# Altium integrated library Capacitor - Ceramic - Sumsung.IntLib: 1421 symbols (part 19 of 22)
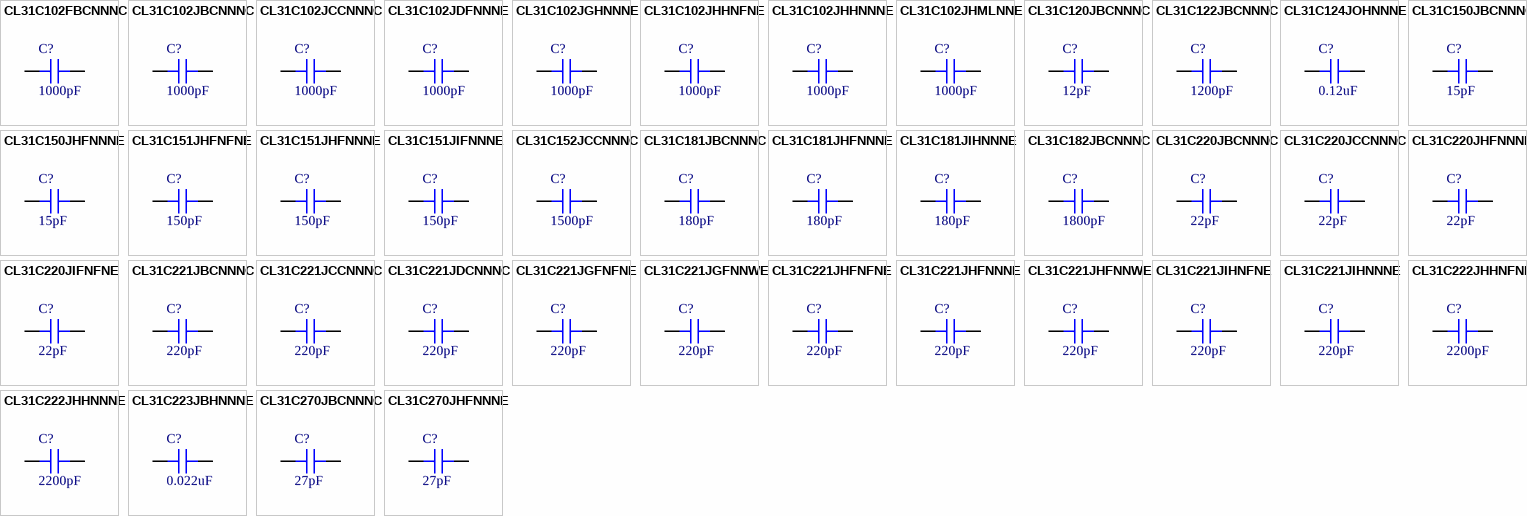
[diagram p53: symbols CL31C102FBCNNNC to CL31C270JHFNNNE]

## CL31C102JBCNNNC
designator C?, comment 1000pF
CAP CER 1000PF 50V NP0 1206; Part Number: CL31C102JBCNNNC; Manufacturer: Samsung Electro-Mechanics America, Inc.; TemperatureRange: -55C ~ 125C; TemperatureCoefficient: C0G, NP0; Tolerance: 5%; Value: 1000pF; PartId: 17139; Supplier 1: Digi-Key; Supplier Part Number 1: 1276-1310-2-ND; ComponentLink1Description: Datasheet; ComponentLink1URL: http://www.samsungsem.com/kr/support/product-search/mlcc/__icsFiles/afieldfile/2016/08/18/S_CL31C102JBCNNNC.pdf; ComponentLink2Description: Digi-Key Listing; ComponentLink2URL: https://www.digikey.com/product-detail/en/samsung-electro-mechanics-america-inc/CL31C102JBCNNNC/1276-1310-2-ND/3886968; Voltage: 50V; Price: 0.0455; Device Package: 1206 (3216 Metric)
footprint CAP 1206/3216 - 1.0MM
pins: 1, 2

## CL31C102JCCNNNC
designator C?, comment 1000pF
CAP CER 1000PF 100V NP0 1206; Part Number: CL31C102JCCNNNC; Manufacturer: Samsung Electro-Mechanics America, Inc.; TemperatureRange: -55C ~ 125C; TemperatureCoefficient: C0G, NP0; Tolerance: 5%; Value: 1000pF; PartId: 17075; Supplier 1: Digi-Key; Supplier Part Number 1: 1276-2805-2-ND; ComponentLink1Description: Datasheet; ComponentLink1URL: http://www.samsungsem.com/kr/support/product-search/mlcc/__icsFiles/afieldfile/2016/08/18/S_CL31C102JCCNNNC.pdf; ComponentLink2Description: Digi-Key Listing; ComponentLink2URL: https://www.digikey.com/product-detail/en/samsung-electro-mechanics-america-inc/CL31C102JCCNNNC/1276-2805-2-ND/3888463; Voltage: 100V; Price: 0.0722; Device Package: 1206 (3216 Metric)
footprint CAP 1206/3216 - 1.0MM
pins: 1, 2

## CL31C102JDFNNNE
designator C?, comment 1000pF
CAP CER 1000PF 200V NP0 1206; Part Number: CL31C102JDFNNNE; Manufacturer: Samsung Electro-Mechanics America, Inc.; TemperatureRange: -55C ~ 125C; TemperatureCoefficient: C0G, NP0; Tolerance: 5%; Value: 1000pF; PartId: 15440; Supplier 1: Digi-Key; Supplier Part Number 1: 1276-3204-2-ND; ComponentLink1Description: Datasheet; ComponentLink1URL: http://www.samsungsem.com/kr/support/product-search/mlcc/CL31C102JDFNNNE.jsp; ComponentLink2Description: Digi-Key Listing; ComponentLink2URL: https://www.digikey.com/product-detail/en/samsung-electro-mechanics-america-inc/CL31C102JDFNNNE/1276-3204-2-ND/3888862; Voltage: 200V; Price: 0.0528; Device Package: 1206 (3216 Metric)
footprint CAP 1206/3216
pins: 1, 2

## CL31C102JGHNNNE
designator C?, comment 1000pF
CAP CER 1000PF 500V NP0 1206; Part Number: CL31C102JGHNNNE; Manufacturer: Samsung Electro-Mechanics America, Inc.; TemperatureRange: -55C ~ 125C; TemperatureCoefficient: C0G, NP0; Tolerance: 5%; Value: 1000pF; PartId: 15450; Supplier 1: Digi-Key; Supplier Part Number 1: 1276-3206-2-ND; ComponentLink1Description: Datasheet; ComponentLink1URL: http://www.samsungsem.com/kr/support/product-search/mlcc/CL31C102JGHNNNE.jsp; ComponentLink2Description: Digi-Key Listing; ComponentLink2URL: https://www.digikey.com/product-detail/en/samsung-electro-mechanics-america-inc/CL31C102JGHNNNE/1276-3206-2-ND/3888864; Voltage: 500V; Price: 0.0582; Device Package: 1206 (3216 Metric)
footprint CAP 1206/3216
pins: 1, 2

## CL31C102JHHNFNE
designator C?, comment 1000pF
CAP CER 1000PF 630V NP0 1206; Part Number: CL31C102JHHNFNE; Manufacturer: Samsung Electro-Mechanics America, Inc.; TemperatureRange: -55C ~ 125C; TemperatureCoefficient: C0G, NP0; Tolerance: 5%; Value: 1000pF; PartId: 15409; Supplier 1: Digi-Key; Supplier Part Number 1: 1276-3207-2-ND; ComponentLink1Description: Datasheet; ComponentLink1URL: http://www.samsungsem.com/kr/support/product-search/mlcc/CL31C102JHHNFNE.jsp; ComponentLink2Description: Digi-Key Listing; ComponentLink2URL: https://www.digikey.com/product-detail/en/samsung-electro-mechanics-america-inc/CL31C102JHHNFNE/1276-3207-2-ND/3888865; Voltage: 630V; Price: 0.0582; Device Package: 1206 (3216 Metric)
footprint CAP 1206/3216
pins: 1, 2

## CL31C102JHHNNNE
designator C?, comment 1000pF
CAP CER 1000PF 630V NP0 1206; Part Number: CL31C102JHHNNNE; Manufacturer: Samsung Electro-Mechanics America, Inc.; TemperatureRange: -55C ~ 125C; TemperatureCoefficient: C0G, NP0; Tolerance: 5%; Value: 1000pF; PartId: 15451; Supplier 1: Digi-Key; Supplier Part Number 1: 1276-3208-2-ND; ComponentLink1Description: Datasheet; ComponentLink1URL: http://www.samsungsem.com/kr/support/product-search/mlcc/CL31C102JHHNNNE.jsp; ComponentLink2Description: Digi-Key Listing; ComponentLink2URL: https://www.digikey.com/product-detail/en/samsung-electro-mechanics-america-inc/CL31C102JHHNNNE/1276-3208-2-ND/3888866; Voltage: 630V; Price: 0.0582; Device Package: 1206 (3216 Metric)
footprint CAP 1206/3216
pins: 1, 2

## CL31C102JHMLNNE
designator C?, comment 1000pF
CAP CER 1000PF 630V NP0 1206; Part Number: CL31C102JHMLNNE; Manufacturer: Samsung Electro-Mechanics America, Inc.; TemperatureRange: -55C ~ 125C; TemperatureCoefficient: C0G, NP0; Tolerance: 5%; Value: 1000pF; PartId: 15452; Supplier 1: Digi-Key; Supplier Part Number 1: 1276-3209-2-ND; ComponentLink1Description: Datasheet; ComponentLink1URL: http://www.samsungsem.com/kr/support/product-search/mlcc/CL31C102JHMLNNE.jsp; ComponentLink2Description: Digi-Key Listing; ComponentLink2URL: https://www.digikey.com/product-detail/en/samsung-electro-mechanics-america-inc/CL31C102JHMLNNE/1276-3209-2-ND/3888867; Voltage: 630V; Price: 0.0582; Device Package: 1206 (3216 Metric)
footprint CAP 1206/3216
pins: 1, 2

## CL31C120JBCNNNC
designator C?, comment 12pF
CAP CER 12PF 50V NP0 1206; Part Number: CL31C120JBCNNNC; Manufacturer: Samsung Electro-Mechanics America, Inc.; TemperatureRange: -55C ~ 125C; TemperatureCoefficient: C0G, NP0; Tolerance: 5%; Value: 12pF; PartId: 17168; Supplier 1: Digi-Key; Supplier Part Number 1: 1276-2806-2-ND; ComponentLink1Description: Datasheet; ComponentLink1URL: http://www.samsungsem.com/kr/support/product-search/mlcc/__icsFiles/afieldfile/2016/08/18/S_CL31C120JBCNNNC.pdf; ComponentLink2Description: Digi-Key Listing; ComponentLink2URL: https://www.digikey.com/product-detail/en/samsung-electro-mechanics-america-inc/CL31C120JBCNNNC/1276-2806-2-ND/3888464; Voltage: 50V; Price: 0.0369; Device Package: 1206 (3216 Metric)
footprint CAP 1206/3216 - 1.0MM
pins: 1, 2

## CL31C122JBCNNNC
designator C?, comment 1200pF
CAP CER 1200PF 50V NP0 1206; Part Number: CL31C122JBCNNNC; Manufacturer: Samsung Electro-Mechanics America, Inc.; TemperatureRange: -55C ~ 125C; TemperatureCoefficient: C0G, NP0; Tolerance: 5%; Value: 1200pF; PartId: 17129; Supplier 1: Digi-Key; Supplier Part Number 1: 1276-2808-2-ND; ComponentLink1Description: Datasheet; ComponentLink1URL: http://www.samsungsem.com/kr/support/product-search/mlcc/__icsFiles/afieldfile/2016/08/18/S_CL31C122JBCNNNC.pdf; ComponentLink2Description: Digi-Key Listing; ComponentLink2URL: https://www.digikey.com/product-detail/en/samsung-electro-mechanics-america-inc/CL31C122JBCNNNC/1276-2808-2-ND/3888466; Voltage: 50V; Price: 0.0739; Device Package: 1206 (3216 Metric)
footprint CAP 1206/3216 - 1.0MM
pins: 1, 2

## CL31C124JOHNNNE
designator C?, comment 0.12uF
CAP CER 0.12UF 16V NP0 1206; Part Number: CL31C124JOHNNNE; Manufacturer: Samsung Electro-Mechanics America, Inc.; TemperatureRange: -55C ~ 125C; TemperatureCoefficient: C0G, NP0; Tolerance: 5%; Value: 0.12uF; PartId: 17486; Supplier 1: Digi-Key; Supplier Part Number 1: 1276-3213-2-ND; ComponentLink1Description: Datasheet; ComponentLink1URL: http://www.samsungsem.com/kr/support/product-search/mlcc/__icsFiles/afieldfile/2016/08/18/S_CL31C124JOHNNNE.pdf; ComponentLink2Description: Digi-Key Listing; ComponentLink2URL: https://www.digikey.com/product-detail/en/samsung-electro-mechanics-america-inc/CL31C124JOHNNNE/1276-3213-2-ND/3888871; Voltage: 16V; Price: 0.241; Device Package: 1206 (3216 Metric)
footprint CAP 1206/3216 - 1.8MM
pins: 1, 2

## CL31C150JBCNNNC
designator C?, comment 15pF
CAP CER 15PF 50V NP0 1206; Part Number: CL31C150JBCNNNC; Manufacturer: Samsung Electro-Mechanics America, Inc.; TemperatureRange: -55C ~ 125C; TemperatureCoefficient: C0G, NP0; Tolerance: 5%; Value: 15pF; PartId: 17289; Supplier 1: Digi-Key; Supplier Part Number 1: 1276-2809-2-ND; ComponentLink1Description: Datasheet; ComponentLink1URL: http://www.samsungsem.com/kr/support/product-search/mlcc/__icsFiles/afieldfile/2016/08/18/S_CL31C150JBCNNNC.pdf; ComponentLink2Description: Digi-Key Listing; ComponentLink2URL: https://www.digikey.com/product-detail/en/samsung-electro-mechanics-america-inc/CL31C150JBCNNNC/1276-2809-2-ND/3888467; Voltage: 50V; Price: 0.0361; Device Package: 1206 (3216 Metric)
footprint CAP 1206/3216 - 1.0MM
pins: 1, 2

## CL31C150JHFNNNE
designator C?, comment 15pF
CAP CER 15PF 630V NP0 1206; Part Number: CL31C150JHFNNNE; Manufacturer: Samsung Electro-Mechanics America, Inc.; TemperatureRange: -55C ~ 125C; TemperatureCoefficient: C0G, NP0; Tolerance: 5%; Value: 15pF; PartId: 15402; Supplier 1: Digi-Key; Supplier Part Number 1: 1276-3215-2-ND; ComponentLink1Description: Datasheet; ComponentLink1URL: http://www.samsungsem.com/kr/support/product-search/mlcc/CL31C150JHFNNNE.jsp; ComponentLink2Description: Digi-Key Listing; ComponentLink2URL: https://www.digikey.com/product-detail/en/samsung-electro-mechanics-america-inc/CL31C150JHFNNNE/1276-3215-2-ND/3888873; Voltage: 630V; Price: 0.029; Device Package: 1206 (3216 Metric)
footprint CAP 1206/3216
pins: 1, 2

## CL31C151JHFNFNE
designator C?, comment 150pF
CAP CER 150PF 630V NP0 1206; Part Number: CL31C151JHFNFNE; Manufacturer: Samsung Electro-Mechanics America, Inc.; TemperatureRange: -55C ~ 125C; TemperatureCoefficient: C0G, NP0; Tolerance: 5%; Value: 150pF; PartId: 15493; Supplier 1: Digi-Key; Supplier Part Number 1: 1276-3217-2-ND; ComponentLink1Description: Datasheet; ComponentLink1URL: http://www.samsungsem.com/kr/support/product-search/mlcc/CL31C151JHFNFNE.jsp; ComponentLink2Description: Digi-Key Listing; ComponentLink2URL: https://www.digikey.com/product-detail/en/samsung-electro-mechanics-america-inc/CL31C151JHFNFNE/1276-3217-2-ND/3888875; Voltage: 630V; Price: 0.044; Device Package: 1206 (3216 Metric)
footprint CAP 1206/3216
pins: 1, 2

## CL31C151JHFNNNE
designator C?, comment 150pF
CAP CER 150PF 630V NP0 1206; Part Number: CL31C151JHFNNNE; Manufacturer: Samsung Electro-Mechanics America, Inc.; TemperatureRange: -55C ~ 125C; TemperatureCoefficient: C0G, NP0; Tolerance: 5%; Value: 150pF; PartId: 15477; Supplier 1: Digi-Key; Supplier Part Number 1: 1276-3218-2-ND; ComponentLink1Description: Datasheet; ComponentLink1URL: http://www.samsungsem.com/kr/support/product-search/mlcc/CL31C151JHFNNNE.jsp; ComponentLink2Description: Digi-Key Listing; ComponentLink2URL: https://www.digikey.com/product-detail/en/samsung-electro-mechanics-america-inc/CL31C151JHFNNNE/1276-3218-2-ND/3888876; Voltage: 630V; Price: 0.044; Device Package: 1206 (3216 Metric)
footprint CAP 1206/3216
pins: 1, 2

## CL31C151JIFNNNE
designator C?, comment 150pF
CAP CER 150PF 1KV NP0 1206; Part Number: CL31C151JIFNNNE; Manufacturer: Samsung Electro-Mechanics America, Inc.; TemperatureRange: -55C ~ 125C; TemperatureCoefficient: C0G, NP0; Tolerance: 5%; Voltage: 1000V (1kV); Value: 150pF; PartId: 15410; Supplier 1: Digi-Key; Supplier Part Number 1: 1276-3219-2-ND; ComponentLink1Description: Datasheet; ComponentLink1URL: http://www.samsungsem.com/kr/support/product-search/mlcc/CL31C151JIFNNNE.jsp; ComponentLink2Description: Digi-Key Listing; ComponentLink2URL: https://www.digikey.com/product-detail/en/samsung-electro-mechanics-america-inc/CL31C151JIFNNNE/1276-3219-2-ND/3888877; Price: 0.0593; Device Package: 1206 (3216 Metric)
footprint CAP 1206/3216
pins: 1, 2

## CL31C152JCCNNNC
designator C?, comment 1500pF
CAP CER 1500PF 100V NP0 1206; Part Number: CL31C152JCCNNNC; Manufacturer: Samsung Electro-Mechanics America, Inc.; TemperatureRange: -55C ~ 125C; TemperatureCoefficient: C0G, NP0; Tolerance: 5%; Value: 1500pF; PartId: 17132; Supplier 1: Digi-Key; Supplier Part Number 1: 1276-2814-2-ND; ComponentLink1Description: Datasheet; ComponentLink1URL: http://www.samsungsem.com/kr/support/product-search/mlcc/__icsFiles/afieldfile/2016/08/18/S_CL31C152JCCNNNC.pdf; ComponentLink2Description: Digi-Key Listing; ComponentLink2URL: https://www.digikey.com/product-detail/en/samsung-electro-mechanics-america-inc/CL31C152JCCNNNC/1276-2814-2-ND/3888472; Voltage: 100V; Price: 0.0705; Device Package: 1206 (3216 Metric)
footprint CAP 1206/3216 - 1.0MM
pins: 1, 2

## CL31C181JBCNNNC
designator C?, comment 180pF
CAP CER 180PF 50V NP0 1206; Part Number: CL31C181JBCNNNC; Manufacturer: Samsung Electro-Mechanics America, Inc.; TemperatureRange: -55C ~ 125C; TemperatureCoefficient: C0G, NP0; Tolerance: 5%; Value: 180pF; PartId: 17284; Supplier 1: Digi-Key; Supplier Part Number 1: 1276-2815-2-ND; ComponentLink1Description: Datasheet; ComponentLink1URL: http://www.samsungsem.com/kr/support/product-search/mlcc/__icsFiles/afieldfile/2016/08/18/S_CL31C181JBCNNNC.pdf; ComponentLink2Description: Digi-Key Listing; ComponentLink2URL: https://www.digikey.com/product-detail/en/samsung-electro-mechanics-america-inc/CL31C181JBCNNNC/1276-2815-2-ND/3888473; Voltage: 50V; Price: 0.0399; Device Package: 1206 (3216 Metric)
footprint CAP 1206/3216 - 1.0MM
pins: 1, 2

## CL31C181JHFNNNE
designator C?, comment 180pF
CAP CER 180PF 630V NP0 1206; Part Number: CL31C181JHFNNNE; Manufacturer: Samsung Electro-Mechanics America, Inc.; TemperatureRange: -55C ~ 125C; TemperatureCoefficient: C0G, NP0; Tolerance: 5%; Value: 180pF; PartId: 15495; Supplier 1: Digi-Key; Supplier Part Number 1: 1276-3223-2-ND; ComponentLink1Description: Datasheet; ComponentLink1URL: http://www.samsungsem.com/kr/support/product-search/mlcc/CL31C181JHFNNNE.jsp; ComponentLink2Description: Digi-Key Listing; ComponentLink2URL: https://www.digikey.com/product-detail/en/samsung-electro-mechanics-america-inc/CL31C181JHFNNNE/1276-3223-2-ND/3888881; Voltage: 630V; Price: 0.06; Device Package: 1206 (3216 Metric)
footprint CAP 1206/3216
pins: 1, 2

## CL31C181JIHNNNE
designator C?, comment 180pF
CAP CER 180PF 1KV NP0 1206; Part Number: CL31C181JIHNNNE; Manufacturer: Samsung Electro-Mechanics America, Inc.; TemperatureRange: -55C ~ 125C; TemperatureCoefficient: C0G, NP0; Tolerance: 5%; Voltage: 1000V (1kV); Value: 180pF; PartId: 15456; Supplier 1: Digi-Key; Supplier Part Number 1: 1276-3224-2-ND; ComponentLink1Description: Datasheet; ComponentLink1URL: http://www.samsungsem.com/kr/support/product-search/mlcc/CL31C181JIHNNNE.jsp; ComponentLink2Description: Digi-Key Listing; ComponentLink2URL: https://www.digikey.com/product-detail/en/samsung-electro-mechanics-america-inc/CL31C181JIHNNNE/1276-3224-2-ND/3888882; Price: 0.0593; Device Package: 1206 (3216 Metric)
footprint CAP 1206/3216
pins: 1, 2

## CL31C182JBCNNNC
designator C?, comment 1800pF
CAP CER 1800PF 50V NP0 1206; Part Number: CL31C182JBCNNNC; Manufacturer: Samsung Electro-Mechanics America, Inc.; TemperatureRange: -55C ~ 125C; TemperatureCoefficient: C0G, NP0; Tolerance: 5%; Value: 1800pF; PartId: 17208; Supplier 1: Digi-Key; Supplier Part Number 1: 1276-2816-2-ND; ComponentLink1Description: Datasheet; ComponentLink1URL: http://www.samsungsem.com/kr/support/product-search/mlcc/__icsFiles/afieldfile/2016/08/18/S_CL31C182JBCNNNC.pdf; ComponentLink2Description: Digi-Key Listing; ComponentLink2URL: https://www.digikey.com/product-detail/en/samsung-electro-mechanics-america-inc/CL31C182JBCNNNC/1276-2816-2-ND/3888474; Voltage: 50V; Price: 0.0894; Device Package: 1206 (3216 Metric)
footprint CAP 1206/3216 - 1.0MM
pins: 1, 2

## CL31C220JBCNNNC
designator C?, comment 22pF
CAP CER 22PF 50V NP0 1206; Part Number: CL31C220JBCNNNC; Manufacturer: Samsung Electro-Mechanics America, Inc.; TemperatureRange: -55C ~ 125C; TemperatureCoefficient: C0G, NP0; Tolerance: 5%; Value: 22pF; PartId: 17142; Supplier 1: Digi-Key; Supplier Part Number 1: 1276-1203-2-ND; ComponentLink1Description: Datasheet; ComponentLink1URL: http://www.samsungsem.com/kr/support/product-search/mlcc/__icsFiles/afieldfile/2016/08/18/S_CL31C220JBCNNNC.pdf; ComponentLink2Description: Digi-Key Listing; ComponentLink2URL: https://www.digikey.com/product-detail/en/samsung-electro-mechanics-america-inc/CL31C220JBCNNNC/1276-1203-2-ND/3886861; Voltage: 50V; Price: 0.0361; Device Package: 1206 (3216 Metric)
footprint CAP 1206/3216 - 1.0MM
pins: 1, 2

## CL31C220JCCNNNC
designator C?, comment 22pF
CAP CER 22PF 100V NP0 1206; Part Number: CL31C220JCCNNNC; Manufacturer: Samsung Electro-Mechanics America, Inc.; TemperatureRange: -55C ~ 125C; TemperatureCoefficient: C0G, NP0; Tolerance: 5%; Value: 22pF; PartId: 17299; Supplier 1: Digi-Key; Supplier Part Number 1: 1276-2820-2-ND; ComponentLink1Description: Datasheet; ComponentLink1URL: http://www.samsungsem.com/kr/support/product-search/mlcc/__icsFiles/afieldfile/2016/08/18/S_CL31C220JCCNNNC.pdf; ComponentLink2Description: Digi-Key Listing; ComponentLink2URL: https://www.digikey.com/product-detail/en/samsung-electro-mechanics-america-inc/CL31C220JCCNNNC/1276-2820-2-ND/3888478; Voltage: 100V; Price: 0.045; Device Package: 1206 (3216 Metric)
footprint CAP 1206/3216 - 1.0MM
pins: 1, 2

## CL31C220JHFNNNE
designator C?, comment 22pF
CAP CER 22PF 630V NP0 1206; Part Number: CL31C220JHFNNNE; Manufacturer: Samsung Electro-Mechanics America, Inc.; TemperatureRange: -55C ~ 125C; TemperatureCoefficient: C0G, NP0; Tolerance: 5%; Value: 22pF; PartId: 15420; Supplier 1: Digi-Key; Supplier Part Number 1: 1276-3226-2-ND; ComponentLink1Description: Datasheet; ComponentLink1URL: http://www.samsungsem.com/kr/support/product-search/mlcc/CL31C220JHFNNNE.jsp; ComponentLink2Description: Digi-Key Listing; ComponentLink2URL: https://www.digikey.com/product-detail/en/samsung-electro-mechanics-america-inc/CL31C220JHFNNNE/1276-3226-2-ND/3888884; Voltage: 630V; Price: 0.0779; Device Package: 1206 (3216 Metric)
footprint CAP 1206/3216
pins: 1, 2

## CL31C220JIFNFNE
designator C?, comment 22pF
CAP CER 22PF 1KV NP0 1206; Part Number: CL31C220JIFNFNE; Manufacturer: Samsung Electro-Mechanics America, Inc.; TemperatureRange: -55C ~ 125C; TemperatureCoefficient: C0G, NP0; Tolerance: 5%; Voltage: 1000V (1kV); Value: 22pF; PartId: 15474; Supplier 1: Digi-Key; Supplier Part Number 1: 1276-3227-2-ND; ComponentLink1Description: Datasheet; ComponentLink1URL: http://www.samsungsem.com/kr/support/product-search/mlcc/CL31C220JIFNFNE.jsp; ComponentLink2Description: Digi-Key Listing; ComponentLink2URL: https://www.digikey.com/product-detail/en/samsung-electro-mechanics-america-inc/CL31C220JIFNFNE/1276-3227-2-ND/3888885; Price: 0.0901; Device Package: 1206 (3216 Metric)
footprint CAP 1206/3216
pins: 1, 2

## CL31C221JBCNNNC
designator C?, comment 220pF
CAP CER 220PF 50V NP0 1206; Part Number: CL31C221JBCNNNC; Manufacturer: Samsung Electro-Mechanics America, Inc.; TemperatureRange: -55C ~ 125C; TemperatureCoefficient: C0G, NP0; Tolerance: 5%; Value: 220pF; PartId: 17163; Supplier 1: Digi-Key; Supplier Part Number 1: 1276-1166-2-ND; ComponentLink1Description: Datasheet; ComponentLink1URL: http://www.samsungsem.com/kr/support/product-search/mlcc/__icsFiles/afieldfile/2016/08/18/S_CL31C221JBCNNNC.pdf; ComponentLink2Description: Digi-Key Listing; ComponentLink2URL: https://www.digikey.com/product-detail/en/samsung-electro-mechanics-america-inc/CL31C221JBCNNNC/1276-1166-2-ND/3886824; Voltage: 50V; Price: 0.0409; Device Package: 1206 (3216 Metric)
footprint CAP 1206/3216 - 1.0MM
pins: 1, 2

## CL31C221JCCNNNC
designator C?, comment 220pF
CAP CER 220PF 100V NP0 1206; Part Number: CL31C221JCCNNNC; Manufacturer: Samsung Electro-Mechanics America, Inc.; TemperatureRange: -55C ~ 125C; TemperatureCoefficient: C0G, NP0; Tolerance: 5%; Value: 220pF; PartId: 17133; Supplier 1: Digi-Key; Supplier Part Number 1: 1276-2821-2-ND; ComponentLink1Description: Datasheet; ComponentLink1URL: http://www.samsungsem.com/kr/support/product-search/mlcc/__icsFiles/afieldfile/2016/08/18/S_CL31C221JCCNNNC.pdf; ComponentLink2Description: Digi-Key Listing; ComponentLink2URL: https://www.digikey.com/product-detail/en/samsung-electro-mechanics-america-inc/CL31C221JCCNNNC/1276-2821-2-ND/3888479; Voltage: 100V; Price: 0.0601; Device Package: 1206 (3216 Metric)
footprint CAP 1206/3216 - 1.0MM
pins: 1, 2

## CL31C221JDCNNNC
designator C?, comment 220pF
CAP CER 220PF 200V NP0 1206; Part Number: CL31C221JDCNNNC; Manufacturer: Samsung Electro-Mechanics America, Inc.; TemperatureRange: -55C ~ 125C; TemperatureCoefficient: C0G, NP0; Tolerance: 5%; Value: 220pF; PartId: 15429; Supplier 1: Digi-Key; Supplier Part Number 1: 1276-2822-2-ND; ComponentLink1Description: Datasheet; ComponentLink1URL: http://www.samsungsem.com/kr/support/product-search/mlcc/CL31C221JDCNNNC.jsp; ComponentLink2Description: Digi-Key Listing; ComponentLink2URL: https://www.digikey.com/product-detail/en/samsung-electro-mechanics-america-inc/CL31C221JDCNNNC/1276-2822-2-ND/3888480; Voltage: 200V; Price: 0.04; Device Package: 1206 (3216 Metric)
footprint CAP 1206/3216
pins: 1, 2

## CL31C221JGFNFNE
designator C?, comment 220pF
CAP CER 220PF 500V NP0 1206; Part Number: CL31C221JGFNFNE; Manufacturer: Samsung Electro-Mechanics America, Inc.; TemperatureRange: -55C ~ 125C; TemperatureCoefficient: C0G, NP0; Tolerance: 5%; Value: 220pF; PartId: 15494; Supplier 1: Digi-Key; Supplier Part Number 1: 1276-3228-2-ND; ComponentLink1Description: Datasheet; ComponentLink1URL: http://www.samsungsem.com/kr/support/product-search/mlcc/CL31C221JGFNFNE.jsp; ComponentLink2Description: Digi-Key Listing; ComponentLink2URL: https://www.digikey.com/product-detail/en/samsung-electro-mechanics-america-inc/CL31C221JGFNFNE/1276-3228-2-ND/3888886; Voltage: 500V; Price: 0.044; Device Package: 1206 (3216 Metric)
footprint CAP 1206/3216
pins: 1, 2

## CL31C221JGFNNWE
designator C?, comment 220pF
CAP CER 220PF 500V NP0 1206; Part Number: CL31C221JGFNNWE; Manufacturer: Samsung Electro-Mechanics America, Inc.; TemperatureRange: -55C ~ 125C; TemperatureCoefficient: C0G, NP0; Tolerance: 5%; Value: 220pF; PartId: 15491; Supplier 1: Digi-Key; Supplier Part Number 1: 1276-3230-2-ND; ComponentLink1Description: Datasheet; ComponentLink1URL: http://www.samsungsem.com/kr/support/product-search/mlcc/CL31C221JGFNNWE.jsp; ComponentLink2Description: Digi-Key Listing; ComponentLink2URL: https://www.digikey.com/product-detail/en/samsung-electro-mechanics-america-inc/CL31C221JGFNNWE/1276-3230-2-ND/3888888; Voltage: 500V; Price: 0.044; Device Package: 1206 (3216 Metric)
footprint CAP 1206/3216
pins: 1, 2

## CL31C221JHFNFNE
designator C?, comment 220pF
CAP CER 220PF 630V NP0 1206; Part Number: CL31C221JHFNFNE; Manufacturer: Samsung Electro-Mechanics America, Inc.; TemperatureRange: -55C ~ 125C; TemperatureCoefficient: C0G, NP0; Tolerance: 5%; Value: 220pF; PartId: 15478; Supplier 1: Digi-Key; Supplier Part Number 1: 1276-3231-2-ND; ComponentLink1Description: Datasheet; ComponentLink1URL: http://www.samsungsem.com/kr/support/product-search/mlcc/CL31C221JHFNFNE.jsp; ComponentLink2Description: Digi-Key Listing; ComponentLink2URL: https://www.digikey.com/product-detail/en/samsung-electro-mechanics-america-inc/CL31C221JHFNFNE/1276-3231-2-ND/3888889; Voltage: 630V; Price: 0.0453; Device Package: 1206 (3216 Metric)
footprint CAP 1206/3216
pins: 1, 2

## CL31C221JHFNNNE
designator C?, comment 220pF
CAP CER 220PF 630V NP0 1206; Part Number: CL31C221JHFNNNE; Manufacturer: Samsung Electro-Mechanics America, Inc.; TemperatureRange: -55C ~ 125C; TemperatureCoefficient: C0G, NP0; Tolerance: 5%; Value: 220pF; PartId: 15433; Supplier 1: Digi-Key; Supplier Part Number 1: 1276-3232-2-ND; ComponentLink1Description: Datasheet; ComponentLink1URL: http://www.samsungsem.com/kr/support/product-search/mlcc/CL31C221JHFNNNE.jsp; ComponentLink2Description: Digi-Key Listing; ComponentLink2URL: https://www.digikey.com/product-detail/en/samsung-electro-mechanics-america-inc/CL31C221JHFNNNE/1276-3232-2-ND/3888890; Voltage: 630V; Price: 0.044; Device Package: 1206 (3216 Metric)
footprint CAP 1206/3216
pins: 1, 2

## CL31C221JHFNNWE
designator C?, comment 220pF
CAP CER 220PF 630V NP0 1206; Part Number: CL31C221JHFNNWE; Manufacturer: Samsung Electro-Mechanics America, Inc.; TemperatureRange: -55C ~ 125C; TemperatureCoefficient: C0G, NP0; Tolerance: 5%; Value: 220pF; PartId: 15436; Supplier 1: Digi-Key; Supplier Part Number 1: 1276-3233-2-ND; ComponentLink1Description: Datasheet; ComponentLink1URL: http://www.samsungsem.com/kr/support/product-search/mlcc/CL31C221JHFNNWE.jsp; ComponentLink2Description: Digi-Key Listing; ComponentLink2URL: https://www.digikey.com/product-detail/en/samsung-electro-mechanics-america-inc/CL31C221JHFNNWE/1276-3233-2-ND/3888891; Voltage: 630V; Price: 0.0453; Device Package: 1206 (3216 Metric)
footprint CAP 1206/3216
pins: 1, 2

## CL31C221JIHNFNE
designator C?, comment 220pF
CAP CER 220PF 1KV NP0 1206; Part Number: CL31C221JIHNFNE; Manufacturer: Samsung Electro-Mechanics America, Inc.; TemperatureRange: -55C ~ 125C; TemperatureCoefficient: C0G, NP0; Tolerance: 5%; Voltage: 1000V (1kV); Value: 220pF; PartId: 15424; Supplier 1: Digi-Key; Supplier Part Number 1: 1276-3234-2-ND; ComponentLink1Description: Datasheet; ComponentLink1URL: http://www.samsungsem.com/kr/support/product-search/mlcc/CL31C221JIHNFNE.jsp; ComponentLink2Description: Digi-Key Listing; ComponentLink2URL: https://www.digikey.com/product-detail/en/samsung-electro-mechanics-america-inc/CL31C221JIHNFNE/1276-3234-2-ND/3888892; Price: 0.0792; Device Package: 1206 (3216 Metric)
footprint CAP 1206/3216
pins: 1, 2

## CL31C221JIHNNNE
designator C?, comment 220pF
CAP CER 220PF 1KV NP0 1206; Part Number: CL31C221JIHNNNE; Manufacturer: Samsung Electro-Mechanics America, Inc.; TemperatureRange: -55C ~ 125C; TemperatureCoefficient: C0G, NP0; Tolerance: 5%; Voltage: 1000V (1kV); Value: 220pF; PartId: 15470; Supplier 1: Digi-Key; Supplier Part Number 1: 1276-3235-2-ND; ComponentLink1Description: Datasheet; ComponentLink1URL: http://www.samsungsem.com/kr/support/product-search/mlcc/CL31C221JIHNNNE.jsp; ComponentLink2Description: Digi-Key Listing; ComponentLink2URL: https://www.digikey.com/product-detail/en/samsung-electro-mechanics-america-inc/CL31C221JIHNNNE/1276-3235-2-ND/3888893; Price: 0.0792; Device Package: 1206 (3216 Metric)
footprint CAP 1206/3216
pins: 1, 2

## CL31C222JHHNFNE
designator C?, comment 2200pF
CAP CER 2200PF 630V NP0 1206; Part Number: CL31C222JHHNFNE; Manufacturer: Samsung Electro-Mechanics America, Inc.; TemperatureRange: -55C ~ 125C; TemperatureCoefficient: C0G, NP0; Tolerance: 5%; Value: 2200pF; PartId: 15448; Supplier 1: Digi-Key; Supplier Part Number 1: 1276-3238-2-ND; ComponentLink1Description: Datasheet; ComponentLink1URL: http://www.samsungsem.com/kr/support/product-search/mlcc/CL31C222JHHNFNE.jsp; ComponentLink2Description: Digi-Key Listing; ComponentLink2URL: https://www.digikey.com/product-detail/en/samsung-electro-mechanics-america-inc/CL31C222JHHNFNE/1276-3238-2-ND/3888896; Voltage: 630V; Price: 0.0568; Device Package: 1206 (3216 Metric)
footprint CAP 1206/3216
pins: 1, 2

## CL31C222JHHNNNE
designator C?, comment 2200pF
CAP CER 2200PF 630V NP0 1206; Part Number: CL31C222JHHNNNE; Manufacturer: Samsung Electro-Mechanics America, Inc.; TemperatureRange: -55C ~ 125C; TemperatureCoefficient: C0G, NP0; Tolerance: 5%; Value: 2200pF; PartId: 15423; Supplier 1: Digi-Key; Supplier Part Number 1: 1276-3239-2-ND; ComponentLink1Description: Datasheet; ComponentLink1URL: http://www.samsungsem.com/kr/support/product-search/mlcc/CL31C222JHHNNNE.jsp; ComponentLink2Description: Digi-Key Listing; ComponentLink2URL: https://www.digikey.com/product-detail/en/samsung-electro-mechanics-america-inc/CL31C222JHHNNNE/1276-3239-2-ND/3888897; Voltage: 630V; Price: 0.0786; Device Package: 1206 (3216 Metric)
footprint CAP 1206/3216
pins: 1, 2

## CL31C223JBHNNNE
designator C?, comment 0.022uF
CAP CER 0.022UF 50V NP0 1206; Part Number: CL31C223JBHNNNE; Manufacturer: Samsung Electro-Mechanics America, Inc.; TemperatureRange: -55C ~ 125C; TemperatureCoefficient: C0G, NP0; Tolerance: 5%; Value: 0.022uF; PartId: 17940; Supplier 1: Digi-Key; Supplier Part Number 1: 1276-3240-2-ND; ComponentLink1Description: Datasheet; ComponentLink1URL: http://www.samsungsem.com/kr/support/product-search/mlcc/__icsFiles/afieldfile/2016/08/18/S_CL31C223JBHNNNE.pdf; ComponentLink2Description: Digi-Key Listing; ComponentLink2URL: https://www.digikey.com/product-detail/en/samsung-electro-mechanics-america-inc/CL31C223JBHNNNE/1276-3240-2-ND/3888898; Voltage: 50V; Price: 0.1527; Device Package: 1206 (3216 Metric)
footprint CAP 1206/3216 - 1.8MM
pins: 1, 2

## CL31C270JBCNNNC
designator C?, comment 27pF
CAP CER 27PF 50V NP0 1206; Part Number: CL31C270JBCNNNC; Manufacturer: Samsung Electro-Mechanics America, Inc.; TemperatureRange: -55C ~ 125C; TemperatureCoefficient: C0G, NP0; Tolerance: 5%; Value: 27pF; PartId: 17288; Supplier 1: Digi-Key; Supplier Part Number 1: 1276-2826-2-ND; ComponentLink1Description: Datasheet; ComponentLink1URL: http://www.samsungsem.com/kr/support/product-search/mlcc/__icsFiles/afieldfile/2016/08/18/S_CL31C270JBCNNNC.pdf; ComponentLink2Description: Digi-Key Listing; ComponentLink2URL: https://www.digikey.com/product-detail/en/samsung-electro-mechanics-america-inc/CL31C270JBCNNNC/1276-2826-2-ND/3888484; Voltage: 50V; Price: 0.0361; Device Package: 1206 (3216 Metric)
footprint CAP 1206/3216 - 1.0MM
pins: 1, 2

## CL31C270JHFNNNE
designator C?, comment 27pF
CAP CER 27PF 630V NP0 1206; Part Number: CL31C270JHFNNNE; Manufacturer: Samsung Electro-Mechanics America, Inc.; TemperatureRange: -55C ~ 125C; TemperatureCoefficient: C0G, NP0; Tolerance: 5%; Value: 27pF; PartId: 15425; Supplier 1: Digi-Key; Supplier Part Number 1: 1276-3241-2-ND; ComponentLink1Description: Datasheet; ComponentLink1URL: http://www.samsungsem.com/kr/support/product-search/mlcc/CL31C270JHFNNNE.jsp; ComponentLink2Description: Digi-Key Listing; ComponentLink2URL: https://www.digikey.com/product-detail/en/samsung-electro-mechanics-america-inc/CL31C270JHFNNNE/1276-3241-2-ND/3888899; Voltage: 630V; Price: 0.0855; Device Package: 1206 (3216 Metric)
footprint CAP 1206/3216
pins: 1, 2

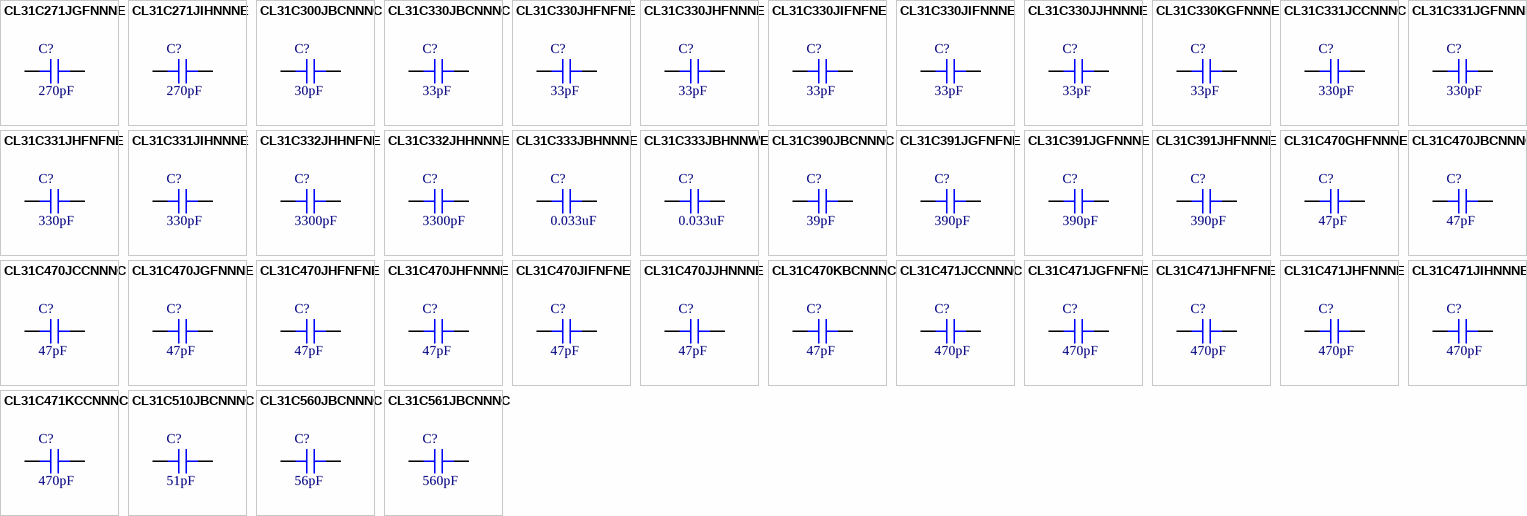
[diagram p31: symbols CL31C271JGFNNNE to CL31C561JBCNNNC]

## CL31C271JGFNNNE
designator C?, comment 270pF
CAP CER 270PF 500V NP0 1206; Part Number: CL31C271JGFNNNE; Manufacturer: Samsung Electro-Mechanics America, Inc.; TemperatureRange: -55C ~ 125C; TemperatureCoefficient: C0G, NP0; Tolerance: 5%; Value: 270pF; PartId: 15412; Supplier 1: Digi-Key; Supplier Part Number 1: 1276-3242-2-ND; ComponentLink1Description: Datasheet; ComponentLink1URL: http://www.samsungsem.com/kr/support/product-search/mlcc/CL31C271JGFNNNE.jsp; ComponentLink2Description: Digi-Key Listing; ComponentLink2URL: https://www.digikey.com/product-detail/en/samsung-electro-mechanics-america-inc/CL31C271JGFNNNE/1276-3242-2-ND/3888900; Voltage: 500V; Price: 0.06; Device Package: 1206 (3216 Metric)
footprint CAP 1206/3216
pins: 1, 2

## CL31C271JIHNNNE
designator C?, comment 270pF
CAP CER 270PF 1KV NP0 1206; Part Number: CL31C271JIHNNNE; Manufacturer: Samsung Electro-Mechanics America, Inc.; TemperatureRange: -55C ~ 125C; TemperatureCoefficient: C0G, NP0; Tolerance: 5%; Voltage: 1000V (1kV); Value: 270pF; PartId: 15401; Supplier 1: Digi-Key; Supplier Part Number 1: 1276-3244-2-ND; ComponentLink1Description: Datasheet; ComponentLink1URL: http://www.samsungsem.com/kr/support/product-search/mlcc/CL31C271JIHNNNE.jsp; ComponentLink2Description: Digi-Key Listing; ComponentLink2URL: https://www.digikey.com/product-detail/en/samsung-electro-mechanics-america-inc/CL31C271JIHNNNE/1276-3244-2-ND/3888902; Price: 0.0547; Device Package: 1206 (3216 Metric)
footprint CAP 1206/3216
pins: 1, 2

## CL31C300JBCNNNC
designator C?, comment 30pF
CAP CER 30PF 50V NP0 1206; Part Number: CL31C300JBCNNNC; Manufacturer: Samsung Electro-Mechanics America, Inc.; TemperatureRange: -55C ~ 125C; TemperatureCoefficient: C0G, NP0; Tolerance: 5%; Value: 30pF; PartId: 17084; Supplier 1: Digi-Key; Supplier Part Number 1: 1276-2830-2-ND; ComponentLink1Description: Datasheet; ComponentLink1URL: http://www.samsungsem.com/kr/support/product-search/mlcc/__icsFiles/afieldfile/2016/08/18/S_CL31C300JBCNNNC.pdf; ComponentLink2Description: Digi-Key Listing; ComponentLink2URL: https://www.digikey.com/product-detail/en/samsung-electro-mechanics-america-inc/CL31C300JBCNNNC/1276-2830-2-ND/3888488; Voltage: 50V; Price: 0.0131; Device Package: 1206 (3216 Metric)
footprint CAP 1206/3216 - 1.0MM
pins: 1, 2

## CL31C330JBCNNNC
designator C?, comment 33pF
CAP CER 33PF 50V NP0 1206; Part Number: CL31C330JBCNNNC; Manufacturer: Samsung Electro-Mechanics America, Inc.; TemperatureRange: -55C ~ 125C; TemperatureCoefficient: C0G, NP0; Tolerance: 5%; Value: 33pF; PartId: 16961; Supplier 1: Digi-Key; Supplier Part Number 1: 1276-1252-2-ND; ComponentLink1Description: Datasheet; ComponentLink1URL: http://www.samsungsem.com/kr/support/product-search/mlcc/__icsFiles/afieldfile/2016/08/18/S_CL31C330JBCNNNC.pdf; ComponentLink2Description: Digi-Key Listing; ComponentLink2URL: https://www.digikey.com/product-detail/en/samsung-electro-mechanics-america-inc/CL31C330JBCNNNC/1276-1252-2-ND/3886910; Voltage: 50V; Price: 0.0356; Device Package: 1206 (3216 Metric)
footprint CAP 1206/3216 - 1.0MM
pins: 1, 2

## CL31C330JHFNFNE
designator C?, comment 33pF
CAP CER 33PF 630V NP0 1206; Part Number: CL31C330JHFNFNE; Manufacturer: Samsung Electro-Mechanics America, Inc.; TemperatureRange: -55C ~ 125C; TemperatureCoefficient: C0G, NP0; Tolerance: 5%; Value: 33pF; PartId: 15468; Supplier 1: Digi-Key; Supplier Part Number 1: 1276-3247-2-ND; ComponentLink1Description: Datasheet; ComponentLink1URL: http://www.samsungsem.com/kr/support/product-search/mlcc/CL31C330JHFNFNE.jsp; ComponentLink2Description: Digi-Key Listing; ComponentLink2URL: https://www.digikey.com/product-detail/en/samsung-electro-mechanics-america-inc/CL31C330JHFNFNE/1276-3247-2-ND/3888905; Voltage: 630V; Price: 0.0779; Device Package: 1206 (3216 Metric)
footprint CAP 1206/3216
pins: 1, 2

## CL31C330JHFNNNE
designator C?, comment 33pF
CAP CER 33PF 630V NP0 1206; Part Number: CL31C330JHFNNNE; Manufacturer: Samsung Electro-Mechanics America, Inc.; TemperatureRange: -55C ~ 125C; TemperatureCoefficient: C0G, NP0; Tolerance: 5%; Value: 33pF; PartId: 15469; Supplier 1: Digi-Key; Supplier Part Number 1: 1276-3248-2-ND; ComponentLink1Description: Datasheet; ComponentLink1URL: http://www.samsungsem.com/kr/support/product-search/mlcc/CL31C330JHFNNNE.jsp; ComponentLink2Description: Digi-Key Listing; ComponentLink2URL: https://www.digikey.com/product-detail/en/samsung-electro-mechanics-america-inc/CL31C330JHFNNNE/1276-3248-2-ND/3888906; Voltage: 630V; Price: 0.0779; Device Package: 1206 (3216 Metric)
footprint CAP 1206/3216
pins: 1, 2

## CL31C330JIFNFNE
designator C?, comment 33pF
CAP CER 33PF 1KV NP0 1206; Part Number: CL31C330JIFNFNE; Manufacturer: Samsung Electro-Mechanics America, Inc.; TemperatureRange: -55C ~ 125C; TemperatureCoefficient: C0G, NP0; Tolerance: 5%; Voltage: 1000V (1kV); Value: 33pF; PartId: 15507; Supplier 1: Digi-Key; Supplier Part Number 1: 1276-3249-2-ND; ComponentLink1Description: Datasheet; ComponentLink1URL: http://www.samsungsem.com/kr/support/product-search/mlcc/CL31C330JIFNFNE.jsp; ComponentLink2Description: Digi-Key Listing; ComponentLink2URL: https://www.digikey.com/product-detail/en/samsung-electro-mechanics-america-inc/CL31C330JIFNFNE/1276-3249-2-ND/3888907; Price: 0.0531; Device Package: 1206 (3216 Metric)
footprint CAP 1206/3216
pins: 1, 2

## CL31C330JIFNNNE
designator C?, comment 33pF
CAP CER 33PF 1KV NP0 1206; Part Number: CL31C330JIFNNNE; Manufacturer: Samsung Electro-Mechanics America, Inc.; TemperatureRange: -55C ~ 125C; TemperatureCoefficient: C0G, NP0; Tolerance: 5%; Voltage: 1000V (1kV); Value: 33pF; PartId: 15426; Supplier 1: Digi-Key; Supplier Part Number 1: 1276-3250-2-ND; ComponentLink1Description: Datasheet; ComponentLink1URL: http://www.samsungsem.com/kr/support/product-search/mlcc/CL31C330JIFNNNE.jsp; ComponentLink2Description: Digi-Key Listing; ComponentLink2URL: https://www.digikey.com/product-detail/en/samsung-electro-mechanics-america-inc/CL31C330JIFNNNE/1276-3250-2-ND/3888908; Price: 0.0975; Device Package: 1206 (3216 Metric)
footprint CAP 1206/3216
pins: 1, 2

## CL31C330JJHNNNE
designator C?, comment 33pF
CAP CER 33PF 2KV NP0 1206; Part Number: CL31C330JJHNNNE; Manufacturer: Samsung Electro-Mechanics America, Inc.; TemperatureRange: -55C ~ 125C; TemperatureCoefficient: C0G, NP0; Tolerance: 5%; Voltage: 2000V (2kV); Value: 33pF; PartId: 15472; Supplier 1: Digi-Key; Supplier Part Number 1: 1276-3251-2-ND; ComponentLink1Description: Datasheet; ComponentLink1URL: http://www.samsungsem.com/kr/support/product-search/mlcc/CL31C330JJHNNNE.jsp; ComponentLink2Description: Digi-Key Listing; ComponentLink2URL: https://www.digikey.com/product-detail/en/samsung-electro-mechanics-america-inc/CL31C330JJHNNNE/1276-3251-2-ND/3888909; Price: 0.0874; Device Package: 1206 (3216 Metric)
footprint CAP 1206/3216
pins: 1, 2

## CL31C330KGFNNNE
designator C?, comment 33pF
CAP CER 33PF 500V NP0 1206; Part Number: CL31C330KGFNNNE; Manufacturer: Samsung Electro-Mechanics America, Inc.; TemperatureRange: -55C ~ 125C; TemperatureCoefficient: C0G, NP0; Tolerance: 10%; Value: 33pF; PartId: 15505; Supplier 1: Digi-Key; Supplier Part Number 1: 1276-3252-2-ND; ComponentLink1Description: Datasheet; ComponentLink1URL: http://www.samsungsem.com/kr/support/product-search/mlcc/CL31C330KGFNNNE.jsp; ComponentLink2Description: Digi-Key Listing; ComponentLink2URL: https://www.digikey.com/product-detail/en/samsung-electro-mechanics-america-inc/CL31C330KGFNNNE/1276-3252-2-ND/3888910; Voltage: 500V; Price: 0.0519; Device Package: 1206 (3216 Metric)
footprint CAP 1206/3216
pins: 1, 2

## CL31C331JCCNNNC
designator C?, comment 330pF
CAP CER 330PF 100V NP0 1206; Part Number: CL31C331JCCNNNC; Manufacturer: Samsung Electro-Mechanics America, Inc.; TemperatureRange: -55C ~ 125C; TemperatureCoefficient: C0G, NP0; Tolerance: 5%; Value: 330pF; PartId: 17214; Supplier 1: Digi-Key; Supplier Part Number 1: 1276-2832-2-ND; ComponentLink1Description: Datasheet; ComponentLink1URL: http://www.samsungsem.com/kr/support/product-search/mlcc/__icsFiles/afieldfile/2016/08/18/S_CL31C331JCCNNNC.pdf; ComponentLink2Description: Digi-Key Listing; ComponentLink2URL: https://www.digikey.com/product-detail/en/samsung-electro-mechanics-america-inc/CL31C331JCCNNNC/1276-2832-2-ND/3888490; Voltage: 100V; Price: 0.0723; Device Package: 1206 (3216 Metric)
footprint CAP 1206/3216 - 1.0MM
pins: 1, 2

## CL31C331JGFNNNE
designator C?, comment 330pF
CAP CER 330PF 500V NP0 1206; Part Number: CL31C331JGFNNNE; Manufacturer: Samsung Electro-Mechanics America, Inc.; TemperatureRange: -55C ~ 125C; TemperatureCoefficient: C0G, NP0; Tolerance: 5%; Value: 330pF; PartId: 15438; Supplier 1: Digi-Key; Supplier Part Number 1: 1276-3253-2-ND; ComponentLink1Description: Datasheet; ComponentLink1URL: http://www.samsungsem.com/kr/support/product-search/mlcc/CL31C331JGFNNNE.jsp; ComponentLink2Description: Digi-Key Listing; ComponentLink2URL: https://www.digikey.com/product-detail/en/samsung-electro-mechanics-america-inc/CL31C331JGFNNNE/1276-3253-2-ND/3888911; Voltage: 500V; Price: 0.052; Device Package: 1206 (3216 Metric)
footprint CAP 1206/3216
pins: 1, 2

## CL31C331JHFNFNE
designator C?, comment 330pF
CAP CER 330PF 630V NP0 1206; Part Number: CL31C331JHFNFNE; Manufacturer: Samsung Electro-Mechanics America, Inc.; TemperatureRange: -55C ~ 125C; TemperatureCoefficient: C0G, NP0; Tolerance: 5%; Value: 330pF; PartId: 15483; Supplier 1: Digi-Key; Supplier Part Number 1: 1276-3254-2-ND; ComponentLink1Description: Datasheet; ComponentLink1URL: http://www.samsungsem.com/kr/support/product-search/mlcc/CL31C331JHFNFNE.jsp; ComponentLink2Description: Digi-Key Listing; ComponentLink2URL: https://www.digikey.com/product-detail/en/samsung-electro-mechanics-america-inc/CL31C331JHFNFNE/1276-3254-2-ND/3888912; Voltage: 630V; Price: 0.0618; Device Package: 1206 (3216 Metric)
footprint CAP 1206/3216
pins: 1, 2

## CL31C331JIHNNNE
designator C?, comment 330pF
CAP CER 330PF 1KV NP0 1206; Part Number: CL31C331JIHNNNE; Manufacturer: Samsung Electro-Mechanics America, Inc.; TemperatureRange: -55C ~ 125C; TemperatureCoefficient: C0G, NP0; Tolerance: 5%; Voltage: 1000V (1kV); Value: 330pF; PartId: 15427; Supplier 1: Digi-Key; Supplier Part Number 1: 1276-3256-2-ND; ComponentLink1Description: Datasheet; ComponentLink1URL: http://www.samsungsem.com/kr/support/product-search/mlcc/CL31C331JIHNNNE.jsp; ComponentLink2Description: Digi-Key Listing; ComponentLink2URL: https://www.digikey.com/product-detail/en/samsung-electro-mechanics-america-inc/CL31C331JIHNNNE/1276-3256-2-ND/3888914; Price: 0.1252; Device Package: 1206 (3216 Metric)
footprint CAP 1206/3216
pins: 1, 2

## CL31C332JHHNFNE
designator C?, comment 3300pF
CAP CER 3300PF 630V NP0 1206; Part Number: CL31C332JHHNFNE; Manufacturer: Samsung Electro-Mechanics America, Inc.; TemperatureRange: -55C ~ 125C; TemperatureCoefficient: C0G, NP0; Tolerance: 5%; Value: 3300pF; PartId: 15411; Supplier 1: Digi-Key; Supplier Part Number 1: 1276-3259-2-ND; ComponentLink1Description: Datasheet; ComponentLink1URL: http://www.samsungsem.com/kr/support/product-search/mlcc/CL31C332JHHNFNE.jsp; ComponentLink2Description: Digi-Key Listing; ComponentLink2URL: https://www.digikey.com/product-detail/en/samsung-electro-mechanics-america-inc/CL31C332JHHNFNE/1276-3259-2-ND/3888917; Voltage: 630V; Price: 0.0599; Device Package: 1206 (3216 Metric)
footprint CAP 1206/3216
pins: 1, 2

## CL31C332JHHNNNE
designator C?, comment 3300pF
CAP CER 3300PF 630V NP0 1206; Part Number: CL31C332JHHNNNE; Manufacturer: Samsung Electro-Mechanics America, Inc.; TemperatureRange: -55C ~ 125C; TemperatureCoefficient: C0G, NP0; Tolerance: 5%; Value: 3300pF; PartId: 17736; Supplier 1: Digi-Key; Supplier Part Number 1: 1276-6776-2-ND; ComponentLink1Description: Datasheet; ComponentLink1URL: http://www.samsungsem.com/kr/support/product-search/mlcc/__icsFiles/afieldfile/2016/08/18/S_CL31C332JHHNNNE.pdf; ComponentLink2Description: Digi-Key Listing; ComponentLink2URL: https://www.digikey.com/product-detail/en/samsung-electro-mechanics-america-inc/CL31C332JHHNNNE/1276-6776-2-ND/5961260; Voltage: 630V; Price: 0.1446; Device Package: 1206 (3216 Metric)
footprint CAP 1206/3216 - 1.8MM
pins: 1, 2

## CL31C333JBHNNNE
designator C?, comment 0.033uF
CAP CER 0.033UF 50V NP0 1206; Part Number: CL31C333JBHNNNE; Manufacturer: Samsung Electro-Mechanics America, Inc.; TemperatureRange: -55C ~ 125C; TemperatureCoefficient: C0G, NP0; Tolerance: 5%; Value: 0.033uF; PartId: 17542; Supplier 1: Digi-Key; Supplier Part Number 1: 1276-3260-2-ND; ComponentLink1Description: Datasheet; ComponentLink1URL: http://www.samsungsem.com/kr/support/product-search/mlcc/__icsFiles/afieldfile/2016/08/18/S_CL31C333JBHNNNE.pdf; ComponentLink2Description: Digi-Key Listing; ComponentLink2URL: https://www.digikey.com/product-detail/en/samsung-electro-mechanics-america-inc/CL31C333JBHNNNE/1276-3260-2-ND/3888918; Voltage: 50V; Price: 0.1576; Device Package: 1206 (3216 Metric)
footprint CAP 1206/3216 - 1.8MM
pins: 1, 2

## CL31C333JBHNNWE
designator C?, comment 0.033uF
CAP CER 0.033UF 50V NP0 1206; Part Number: CL31C333JBHNNWE; Manufacturer: Samsung Electro-Mechanics America, Inc.; TemperatureRange: -55C ~ 125C; TemperatureCoefficient: C0G, NP0; Tolerance: 5%; Value: 0.033uF; PartId: 17859; Supplier 1: Digi-Key; Supplier Part Number 1: 1276-3261-2-ND; ComponentLink1Description: Datasheet; ComponentLink1URL: http://www.samsungsem.com/kr/support/product-search/mlcc/__icsFiles/afieldfile/2016/08/18/S_CL31C333JBHNNWE.pdf; ComponentLink2Description: Digi-Key Listing; ComponentLink2URL: https://www.digikey.com/product-detail/en/samsung-electro-mechanics-america-inc/CL31C333JBHNNWE/1276-3261-2-ND/3888919; Voltage: 50V; Price: 0.1576; Device Package: 1206 (3216 Metric)
footprint CAP 1206/3216 - 1.8MM
pins: 1, 2

## CL31C390JBCNNNC
designator C?, comment 39pF
CAP CER 39PF 50V NP0 1206; Part Number: CL31C390JBCNNNC; Manufacturer: Samsung Electro-Mechanics America, Inc.; TemperatureRange: -55C ~ 125C; TemperatureCoefficient: C0G, NP0; Tolerance: 5%; Value: 39pF; PartId: 17158; Supplier 1: Digi-Key; Supplier Part Number 1: 1276-1265-2-ND; ComponentLink1Description: Datasheet; ComponentLink1URL: http://www.samsungsem.com/kr/support/product-search/mlcc/__icsFiles/afieldfile/2016/08/18/S_CL31C390JBCNNNC.pdf; ComponentLink2Description: Digi-Key Listing; ComponentLink2URL: https://www.digikey.com/product-detail/en/samsung-electro-mechanics-america-inc/CL31C390JBCNNNC/1276-1265-2-ND/3886923; Voltage: 50V; Price: 0.0369; Device Package: 1206 (3216 Metric)
footprint CAP 1206/3216 - 1.0MM
pins: 1, 2

## CL31C391JGFNFNE
designator C?, comment 390pF
CAP CER 390PF 500V NP0 1206; Part Number: CL31C391JGFNFNE; Manufacturer: Samsung Electro-Mechanics America, Inc.; TemperatureRange: -55C ~ 125C; TemperatureCoefficient: C0G, NP0; Tolerance: 5%; Value: 390pF; PartId: 15497; Supplier 1: Digi-Key; Supplier Part Number 1: 1276-3262-2-ND; ComponentLink1Description: Datasheet; ComponentLink1URL: http://www.samsungsem.com/kr/support/product-search/mlcc/CL31C391JGFNFNE.jsp; ComponentLink2Description: Digi-Key Listing; ComponentLink2URL: https://www.digikey.com/product-detail/en/samsung-electro-mechanics-america-inc/CL31C391JGFNFNE/1276-3262-2-ND/3888920; Voltage: 500V; Price: 0.0618; Device Package: 1206 (3216 Metric)
footprint CAP 1206/3216
pins: 1, 2

## CL31C391JGFNNNE
designator C?, comment 390pF
CAP CER 390PF 500V NP0 1206; Part Number: CL31C391JGFNNNE; Manufacturer: Samsung Electro-Mechanics America, Inc.; TemperatureRange: -55C ~ 125C; TemperatureCoefficient: C0G, NP0; Tolerance: 5%; Value: 390pF; PartId: 15496; Supplier 1: Digi-Key; Supplier Part Number 1: 1276-3263-2-ND; ComponentLink1Description: Datasheet; ComponentLink1URL: http://www.samsungsem.com/kr/support/product-search/mlcc/CL31C391JGFNNNE.jsp; ComponentLink2Description: Digi-Key Listing; ComponentLink2URL: https://www.digikey.com/product-detail/en/samsung-electro-mechanics-america-inc/CL31C391JGFNNNE/1276-3263-2-ND/3888921; Voltage: 500V; Price: 0.06; Device Package: 1206 (3216 Metric)
footprint CAP 1206/3216
pins: 1, 2

## CL31C391JHFNNNE
designator C?, comment 390pF
CAP CER 390PF 630V NP0 1206; Part Number: CL31C391JHFNNNE; Manufacturer: Samsung Electro-Mechanics America, Inc.; TemperatureRange: -55C ~ 125C; TemperatureCoefficient: C0G, NP0; Tolerance: 5%; Value: 390pF; PartId: 15459; Supplier 1: Digi-Key; Supplier Part Number 1: 1276-3264-2-ND; ComponentLink1Description: Datasheet; ComponentLink1URL: http://www.samsungsem.com/kr/support/library/product-catalog/__icsFiles/afieldfile/2015/11/18/MLCC.pdf; ComponentLink2Description: Digi-Key Listing; ComponentLink2URL: https://www.digikey.com/product-detail/en/samsung-electro-mechanics-america-inc/CL31C391JHFNNNE/1276-3264-2-ND/3888922; Voltage: 630V; Price: 0.06; Device Package: 1206 (3216 Metric)
footprint CAP 1206/3216
pins: 1, 2

## CL31C470GHFNNNE
designator C?, comment 47pF
CAP CER 47PF 630V NP0 1206; Part Number: CL31C470GHFNNNE; Manufacturer: Samsung Electro-Mechanics America, Inc.; TemperatureRange: -55C ~ 125C; TemperatureCoefficient: C0G, NP0; Tolerance: 2%; Value: 47pF; PartId: 15503; Supplier 1: Digi-Key; Supplier Part Number 1: 1276-3266-2-ND; ComponentLink1Description: Datasheet; ComponentLink1URL: http://www.samsungsem.com/kr/support/product-search/mlcc/CL31C470GHFNNNE.jsp; ComponentLink2Description: Digi-Key Listing; ComponentLink2URL: https://www.digikey.com/product-detail/en/samsung-electro-mechanics-america-inc/CL31C470GHFNNNE/1276-3266-2-ND/3888924; Voltage: 630V; Price: 0.1231; Device Package: 1206 (3216 Metric)
footprint CAP 1206/3216
pins: 1, 2

## CL31C470JBCNNNC
designator C?, comment 47pF
CAP CER 47PF 50V NP0 1206; Part Number: CL31C470JBCNNNC; Manufacturer: Samsung Electro-Mechanics America, Inc.; TemperatureRange: -55C ~ 125C; TemperatureCoefficient: C0G, NP0; Tolerance: 5%; Value: 47pF; PartId: 17303; Supplier 1: Digi-Key; Supplier Part Number 1: 1276-2836-2-ND; ComponentLink1Description: Datasheet; ComponentLink1URL: http://www.samsungsem.com/kr/support/product-search/mlcc/__icsFiles/afieldfile/2016/08/18/S_CL31C470JBCNNNC.pdf; ComponentLink2Description: Digi-Key Listing; ComponentLink2URL: https://www.digikey.com/product-detail/en/samsung-electro-mechanics-america-inc/CL31C470JBCNNNC/1276-2836-2-ND/3888494; Voltage: 50V; Price: 0.0353; Device Package: 1206 (3216 Metric)
footprint CAP 1206/3216 - 1.0MM
pins: 1, 2

## CL31C470JCCNNNC
designator C?, comment 47pF
CAP CER 47PF 100V NP0 1206; Part Number: CL31C470JCCNNNC; Manufacturer: Samsung Electro-Mechanics America, Inc.; TemperatureRange: -55C ~ 125C; TemperatureCoefficient: C0G, NP0; Tolerance: 5%; Value: 47pF; PartId: 17152; Supplier 1: Digi-Key; Supplier Part Number 1: 1276-2837-2-ND; ComponentLink1Description: Datasheet; ComponentLink1URL: //media.digikey.com/pdf/Data%20Sheets/Samsung%20PDFs/CL31C470JCCNNNC_spec.pdf; ComponentLink2Description: Digi-Key Listing; ComponentLink2URL: https://www.digikey.com/product-detail/en/samsung-electro-mechanics-america-inc/CL31C470JCCNNNC/1276-2837-2-ND/3888495; Voltage: 100V; Price: 0.0171; Device Package: 1206 (3216 Metric)
footprint CAP 1206/3216 - 1.0MM
pins: 1, 2